# Altium schematic symbol library BUG.SchLib: 37 symbols
Pins are listed as number, name and electrical type; pins without a type are passive.

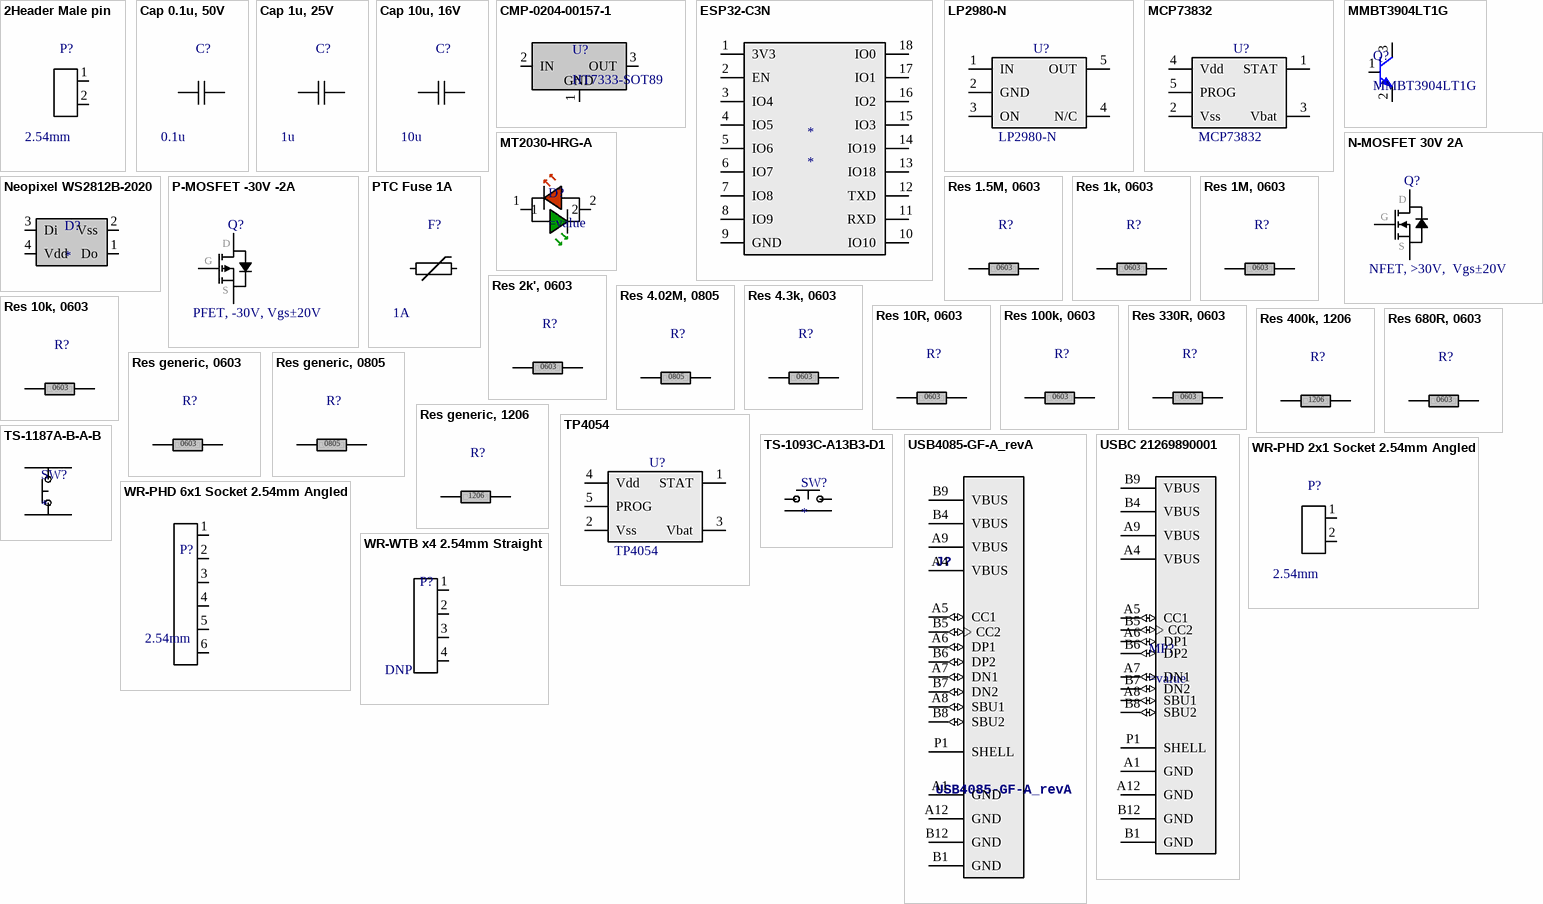
[diagram p0: symbols 2Header Male pin to WR-WTB x4 2.54mm Straight]

## 2Header Male pin
designator P?, comment 2.54mm
TH, 2Pos, 2.54mm Pitch; Manufacturer: TE; Product Code: 640457-2; Supplier 1: JLCPCB; Supplier 1 Number: C86507; Created By: Koen van Remundt; Max Operating Temperature: 105°C; Date Created: 14-10-2021; Datasheet URL: https://datasheet.lcsc.com/lcsc/1811051111_TE-Connectivity-640457-2_C86507.pdf; Value: 2.54mm
footprint Wurth 61300211021 ([Last Edit: 19-04-20])
pins: 1, 2

## Cap 0.1u, 50V
designator C?, comment 0.1u
10%, 50V, X7R, 0805; Created By: Koen van Remundt; Date Created: 14-10-2021; Value: 0.1u; Footprint: 0805; Specs: 10%, 50V, X7R; Supplier E.g.: JLCPCB; Supplier E.g. Number: C49678; Datasheet: https://datasheet.lcsc.com/lcsc/1810101813_YAGEO-CC0805KRX7R9BB104_C49678.pdf
footprint Cap 0805 ([Last Edit: 19-05-19])
pins: 1, 2

## Cap 1u, 25V
designator C?, comment 1u
10%, 50V, X7R, 0805; Created By: Koen van Remundt; Date Created: 14-10-2021; Value: 1u; Footprint: 0805; Specs: 10%, 50V, X7R; Supplier E.g.: JLCPCB; Supplier E.g. Number: C28323; Datasheet: https://datasheet.lcsc.com/lcsc/1810191216_Samsung-Electro-Mechanics-CL21B105KBFNNNE_C28323.pdf
footprint Cap 0805 ([Last Edit: 19-05-19])
pins: 1, 2

## Cap 10u, 16V
designator C?, comment 10u
10%, 16V, X5R, 0805; Created By: Koen van Remundt; Date Created: 14-10-2021; Value: 10u; Footprint: 0805; Specs: 10%, 16V, X5R; Supplier E.g.: JLCPCB; Supplier E.g. Number: C15850; Datasheet: https://datasheet.lcsc.com/lcsc/1811121310_Samsung-Electro-Mechanics-CL21A106KAYNNNE_C15850.pdf
footprint Cap 0805 ([Last Edit: 19-05-19])
pins: 1, 2

## CMP-0204-00157-1
designator U?, comment HT7333-SOT89
Low Power Consumption LDO, Output Voltage 3.3V, SOT89 Pkg; DatasheetVersion: Rev1.4, Jan-2006; PackageVersion: May-2010; PackageReference: SOT89; Code_IPC: SOT89; PackageDescription: 3-Pin SOT-89 Package 1.5 mm Pitch, 4.1 mm Lead Span; Datasheet: https://datasheet.lcsc.com/lcsc/1811101813_Holtek-Semicon-HT7333-1_C77777.pdf
footprint SOT89_L (SOT89, 3-Leads, Body 4.5x2.4 mm, Pitch 1.5mm, Lead Span 4.1mm, IPC High Density)
footprint SOT89_N (SOT89, 3-Leads, Body 4.5x2.4 mm, Pitch 1.5mm, Lead Span 4.1mm, IPC Medium Density)
pins: 1 GND (power), 2 IN (power), 3 OUT (power)

## ESP32-C3N
designator *
footprint ESP32-C3N
pins: 1 3V3, 2 EN, 3 IO4, 4 IO5, 5 IO6, 6 IO7, 7 IO8, 8 IO9, 9 GND, 10 IO10, 11 RXD, 12 TXD, 13 IO18, 14 IO19, 15 IO3, 16 IO2, 17 IO1, 18 IO0

## LP2980-N
designator U?
LDO, 2.1-16Vin, 3.3Vout, 50mA; Manufacturer: Texas Instruments; Product Code: LP2980AIM5-3.3/NOPB; Supplier Mouser: 926-LP2980AIM533NOPB; Created By: Nicolaas du Plessis; Max Operating Temperature: 125°C; Date Created: 25-01-2021; Datasheet URL: https://www.ti.com/lit/ds/symlink/lp2980-n.pdf; Value: LP2980-N
footprint SOT 23-5 ([Last Edit: 19-05-19])
pins: 1 IN, 2 GND, 3 ON, 4 N/C, 5 OUT

## MCP73832
designator U?
3.7V Li-Po charger; Manufacturer: Microchip; Product Code: MCP73832; Created By: Koen van Remundt; Max Operating Temperature: 85°C; Date Created: 05-10-2021; Datasheet URL: https://4donline.ihs.com/images/VipMasterIC/IC/MCHP/MCHPS05673/MCHPS05673-1.pdf?hkey=6D3A4C79FDBF58556ACFDE234799DDF0; Value: MCP73832; Supplier 1: Farnell; Supplier 1 number: MCP73832T-2DFI/OT
footprint SOT 23-5 ([Last Edit: 19-05-19])
pins: 1 STAT, 2 Vss, 3 Vbat, 4 Vdd, 5 PROG

## MMBT3904LT1G
designator Q?
ComponentLink1Description: Datasheet; ComponentLink1URL: https://assets.nexperia.com/documents/data-sheet/MMBT3904.pdf
footprint SOT-23-3-318-08_V (SOT23, 3-Leads, Body 3.04x1.4mm, Pitch 0.95mm)
pins: 1 B, 2 E, 3 C

## MT2030-HRG-A
designator D?
Dual LED inverted orange-green pins; Supplier: Mouser; Supplier Number: 193-MT2030-HRG-A; Created by: Koen van Remundt; Datasheet: https://nl.mouser.com/datasheet/2/1094/MT2030_HRG_A-2258170.pdf
footprint 3mm round lamp
pins: 1, 2

## N-MOSFET 30V 2A
designator Q?, comment NFET, >30V,  Vgs±20V
>30V, >2A @ 80°C, SOT23-3; Specs: <0.5Ohm RdsOn; Created By: Nicolaas du Plessis; Date Created: 03-06-2019; Value: NFET, >30V,  Vgs±20V; Footprint: SOT23-3; Supplier E.g.: Farnell; Supplier E.g. Number: 1791366
footprint SOT23-3 GSD ([Last Edit: 19-05-19])
pins: D, G, S

## Neopixel WS2812B-2020
designator D?
Supplier: Mouser; Supplier Number: 485-4684; Datasheet: https://nl.mouser.com/datasheet/2/737/4684_WS2812B_2020_V1_3_EN-1900866.pdf
footprint WS2812B-2020
pins: 1 Do, 2 Vss, 3 Di, 4 Vdd

## P-MOSFET -30V -2A
designator Q?, comment PFET, -30V, Vgs±20V
<-30V, <-2A @ 80°C, SOT23-3; Specs: <0.5Ohm RdsOn; Created By: Nicolaas du Plessis; Date Created: 30-06-2019; Value: PFET, -30V, Vgs±20V; Footprint: SOT23-3; Supplier E.g.: Farnell; Supplier E.g. Number: 2432719
footprint SOT23-3 GSD ([Last Edit: 19-05-19])
pins: D, G, S

## PTC Fuse 1A
designator F?, comment 1A
6V, 0805; Created By: Koen van Remundt; Date Created: 14-10-2021; Value: 1A; Footprint: 0805; Specs: 6V; Supplier E.g.: JLCPCB; Supplier E.g. Number: C66452; Datasheet: https://datasheet.lcsc.com/lcsc/1808132010_TECHFUSE-SMD0805-050_C66452.pdf
footprint Cap 0805 ([Last Edit: 19-05-2019])
pins: 1, 2

## Res 1.5M, 0603
designator R?, comment 1.5M  (value not drawn)
1%, >100mW; Created By: Koen van Remundt; Date Created: 15-10-2021; Value: 1.5M; Footprint: 0603; Specs: 1%, >100mW; Datasheet: https://datasheet.lcsc.com/lcsc/1811081713_UNI-ROYAL-Uniroyal-Elec-0603WAF6800T5E_C23228.pdf; Supplier: JLCPCB; Supplier Number: C4172
footprint Res 0603 ([Last Edit: 19-05-19])
pins: 1, 2

## Res 1k, 0603
designator R?, comment 1k  (value not drawn)
1%, >100mW; Created By: Koen van Remundt; Date Created: 15-10-2021; Value: 1k; Footprint: 0603; Specs: 1%, >100mW; Datasheet: https://datasheet.lcsc.com/lcsc/1811141223_UNI-ROYAL-Uniroyal-Elec-0603WAF1001T5E_C21190.pdf; Supplier: JLCPCB; Supplier number: C21190
footprint Res 0603 ([Last Edit: 19-05-19])
pins: 1, 2

## Res 1M, 0603
designator R?, comment 1M  (value not drawn)
1%, >100mW; Created By: Koen van Remundt; Date Created: 15-10-2021; Value: 1M; Footprint: 0603; Specs: 1%, >100mW; Datasheet: https://datasheet.lcsc.com/lcsc/1810291820_UNI-ROYAL-Uniroyal-Elec-0603WAF1004T5E_C22935.pdf; Supplier: JLCPCB; Supplier number: C22935
footprint Res 0603 ([Last Edit: 19-05-19])
pins: 1, 2

## Res 2k', 0603
designator R?, comment 2k  (value not drawn)
1%, >100mW; Specs: 1%, >50V, >100mW; Created By: Koen van Remundt; Date Created: 18-10-2021; Value: 2k; Footprint: 0603; Datasheet: https://datasheet.lcsc.com/lcsc/1809140121_UNI-ROYAL-Uniroyal-Elec-0603WAF2001T5E_C22975.pdf; Supplier: JLCPCB; Supplier Number: C22975
footprint Res 0603 ([Last Edit: 19-05-19])
pins: 1, 2

## Res 4.02M, 0805
designator R?, comment 4.02M  (value not drawn)
1%, >125mW; Specs: 1%, >1mW; Created By: Koen van Remundt; Date Created: 15-10-2021; Value: 4.02M; Footprint: 0805; Supplier: JLCPCB; Supplier Number: C247089
footprint Res 0805 ([Last Edit: 19-05-19])
pins: 1, 2

## Res 4.3k, 0603
designator R?, comment 4.3k  (value not drawn)
1%, >100mW; Created By: Koen van Remundt; Date Created: 02-08-2021; Value: 4.3k; Footprint: 0603; Specs: 1%, >100mW; Supplier: JLCBPC; Supplier Number: C23159; Datasheet: https://datasheet.lcsc.com/lcsc/1811081731_UNI-ROYAL-Uniroyal-Elec-0603WAF4301T5E_C23159.pdf
footprint Res 0603 ([Last Edit: 19-05-19])
pins: 1, 2

## Res 10k, 0603
designator R?, comment 10k  (value not drawn)
1%, >100mW; Specs: 1%, >50V, >100mW; Created By: Koen van Remundt; Date Created: 02-08-2021; Value: 10k; Footprint: 0603; Datasheet: https://datasheet.lcsc.com/lcsc/1811062009_UNI-ROYAL-Uniroyal-Elec-0603WAF1002T5E_C25804.pdf; Supplier: JLCPCB; Supplier Number: C25804
footprint Res 0603 ([Last Edit: 19-05-19])
pins: 1, 2

## Res 10R, 0603
designator R?, comment 10R  (value not drawn)
1%, >100mW; Created By: Koen van Remundt; Date Created: 15-10-2021; Value: 10R; Footprint: 0603; Specs: 1%, >100mW; Datasheet: https://www.farnell.com/datasheets/3046027.pdf; Supplier: JLCPCB; Supplier number: C22859
footprint Res 0603 ([Last Edit: 19-05-19])
pins: 1, 2

## Res 100k, 0603
designator R?, comment 100k  (value not drawn)
1%, >100mW; Created By: Koen van Remundt; Date Created: 15-10-2021; Value: 100k; Footprint: 0603; Specs: 1%, >100mW; Datasheet: https://datasheet.lcsc.com/lcsc/1810201809_UNI-ROYAL-Uniroyal-Elec-0603WAF1003T5E_C25803.pdf; Supplier: JLCPCB; Supplier number: C25803
footprint Res 0603 ([Last Edit: 19-05-19])
pins: 1, 2

## Res 330R, 0603
designator R?, comment 330R  (value not drawn)
1%, >100mW; Created By: Koen van Remundt; Date Created: 15-10-2021; Value: 330R; Footprint: 0603; Specs: 1%, >100mW; Datasheet: https://datasheet.lcsc.com/lcsc/1811081713_UNI-ROYAL-Uniroyal-Elec-0603WAF6800T5E_C23228.pdf; Supplier: JLCPCB; Supplier Number: C23138
footprint Res 0603 ([Last Edit: 19-05-19])
pins: 1, 2

## Res 400k, 1206
designator R?, comment See Schematic  (value not drawn)
1%, >500mW; Specs: 1%, >50V, >500mW; Created By: Nicolaas du Plessis; Date Created: 24-03-2021; Value: See Schematic; Footprint: 1206
footprint Res 1206 ([Last Edit: 19-05-19])
pins: 1, 2

## Res 680R, 0603
designator R?, comment 680R  (value not drawn)
1%, >100mW; Created By: Koen van Remundt; Date Created: 15-10-2021; Value: 680R; Footprint: 0603; Specs: 1%, >100mW; Datasheet: https://datasheet.lcsc.com/lcsc/1811081713_UNI-ROYAL-Uniroyal-Elec-0603WAF6800T5E_C23228.pdf; Supplier: JLCPCB; Supplier Number: C23228
footprint Res 0603 ([Last Edit: 19-05-19])
pins: 1, 2

## Res generic, 0603
designator R?, comment 0  (value not drawn)
1%, >50V, >100mW; Created By: Koen van Remundt; Date Created: 02-08-2021; Value: 0; Footprint: 1206; Specs: 1%, >50V, >100mW; Datasheet: https://www.farnell.com/datasheets/3046027.pdf; Link: https://nl.farnell.com/yageo/ac0603jr-070rl/jumper-0r-0-1w-0603-thick-film/dp/3495296?st=zero%20ohm
footprint Res 0603 ([Last Edit: 19-05-19])
pins: 1, 2
text: 0603

## Res generic, 0805
designator R?, comment See Schematic  (value not drawn)
1%, >50V, >150mW; Created By: Nicolaas du Plessis; Date Created: 24-03-2021; Value: See Schematic; Footprint: 0805; Specs: 1%, >50V, >150mW
footprint Res 0805 ([Last Edit: 19-05-19])
pins: 1, 2

## Res generic, 1206
designator R?, comment See Schematic  (value not drawn)
1%, >50V, >500mW; Created By: Nicolaas du Plessis; Date Created: 24-03-2021; Value: See Schematic; Footprint: 1206; Specs: 1%, >50V, >500mW
footprint Res 1206 ([Last Edit: 19-05-19])
pins: 1, 2

## TP4054
designator U?
3.7V Li-Po charger; Manufacturer: Microchip; Product Code: TP4054; Created By: Koen van Remundt; Max Operating Temperature: 85°C; Date Created: 05-10-2021; Datasheet URL: https://datasheet.lcsc.com/lcsc/1809261814_TOPPOWER-Nanjing-Extension-Microelectronics-TP4054_C32574.pdf; Value: TP4054; Supplier 1: JLCPCB; Supplier 1 number: C32574
footprint SOT 23-5 ([Last Edit: 19-05-19])
pins: 1 STAT, 2 Vss, 3 Vbat, 4 Vdd, 5 PROG

## TS-1093C-A13B3-D1
designator SW?
ComponentLink1Description: Datasheet; ComponentLink1URL: https://datasheet.lcsc.com/lcsc/2003171934_Yuandi-TS-1093C-A10B3-D1_C493053.pdf
footprint TS-1093C-A13B3-D1
pins: 0, 1, 2 Case, 3 Case

## TS-1187A-B-A-B
designator SW?
ComponentLink1Description: Datasheet; ComponentLink1URL: https://datasheet.lcsc.com/lcsc/2002271431_XKB-Connectivity-TS-1187A-B-A-B_C318884.pdf
footprint TS-1187A-B-A-B
pins: A 4, B 5, C 7, D 6

## USB4085-GF-A_revA
designator J?
USB 2.0 Type C Receptacle Dip Type, PCB Top Mount; MANUFACTURER: Global Connector Technology; PARTREV: A; STANDARD: Manufacturer Recommendations; Datasheet: https://www.farnell.com/datasheets/2674755.pdf
footprint GCT_USB4085-GF-A_REVA (USB 2.0 Type C Receptacle Dip Type, PCB Top Mount)
pins: A1 GND (power), A4 VBUS (power), A5 CC1 (io), A6 DP1 (io), A7 DN1 (io), A8 SBU1 (io), A9 VBUS (power), A12 GND (power), B1 GND, B4 VBUS (power), B5 CC2 (io), B6 DP2 (io), B7 DN2 (io), B8 SBU2 (io), B9 VBUS (power), B12 GND (power), P1 SHELL

## USBC 21269890001
designator MP?
Vertical USB2.0 C connector; Manufacturer number: 216989-0001; Supplier: Mouser; Supplier number: 538-216989-0001; Datasheet URL: https://www.molex.com/pdm_docs/sd/2169890001_sd.pdf
footprint USBC 2169890001_sd
pins: A1 GND (power), A4 VBUS (power), A5 CC1 (io), A6 DP1 (io), A7 DN1 (io), A8 SBU1 (io), A9 VBUS (power), A12 GND (power), B1 GND, B4 VBUS (power), B5 CC2 (io), B6 DP2 (io), B7 DN2 (io), B8 SBU2 (io), B9 VBUS (power), B12 GND (power), P1 SHELL

## WR-PHD 2x1 Socket 2.54mm Angled
designator P?, comment 2.54mm
TH, 2Pos, 2.54mm Pitch, 3A; Manufacturer: Wurth; Product Code: 613002143121; Supplier 1: Wurth; Supplier 1 Number: 613002143121; Created By: Nicolaas du Plessis; Max Operating Temperature: 105°C; Date Created: 19-04-2020; Datasheet URL: https://www.we-online.com/catalog/datasheet/613002143121.pdf; Value: 2.54mm
footprint Wurth 613002143121 ([Last Edit: 19-04-20])
pins: 1, 2

## WR-PHD 6x1 Socket 2.54mm Angled
designator P?, comment 2.54mm
TH, 6Pos, 2.54mm Pitch, 3A; Manufacturer: Wurth; Product Code: 613006143121; Supplier 1: Wurth; Supplier 1 Number: 613006143121; Created By: Nicolaas du Plessis; Max Operating Temperature: 105°C; Date Created: 19-04-2020; Datasheet URL: https://www.we-online.com/catalog/datasheet/613002143121.pdf; Value: 2.54mm
footprint Wurth 613006143121 ([Last Edit: 19-04-20])
pins: 1, 2, 3, 4, 5, 6

## WR-WTB x4 2.54mm Straight
designator P?, comment DNP
TH, 4Pos, 2.54mm Pitch, 0.08-0.33mm², 3A; Manufacturer: Wurth; Product Code: 61900411121; Supplier 1: Wurth; Supplier 1 Number: 61900411121; Created By: Koen van Remundt; Max Operating Temperature: 105°C; Date Created: 03-06-2019; Datasheet URL: https://katalog.we-online.com/em/datasheet/61900411121.pdf; Value: 2.54mm
footprint Wurth 61900411121 ([Last Edit: 03-06-19])
pins: 1, 2, 3, 4